# Altium schematic symbol library Diode_VS-40EPS08.SchLib: 1 symbol
Pins are listed as number, name and electrical type; pins without a type are passive.

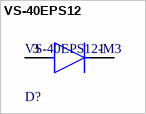
[diagram p0: symbol VS-40EPS12]

## VS-40EPS12
designator D?, comment VS-40EPS12-M3
DIODE GP 1.2KV 40A TO247AC; Series: -; Case/Package: TO-247-2; Mount: Through Hole; Max Reverse Voltage (DC): 1.2kV; RoHS Compliant: Yes; Packaging: Rail/Tube; Average Rectified Current: 40A
footprint 40EPS08
pins: 1 C, 3 A